# EAGLE library part MIC2981/2982 (library df4iah_dataconvertion)
MICROCHIP MIC2981/2982 Open collector driver for 8 channels
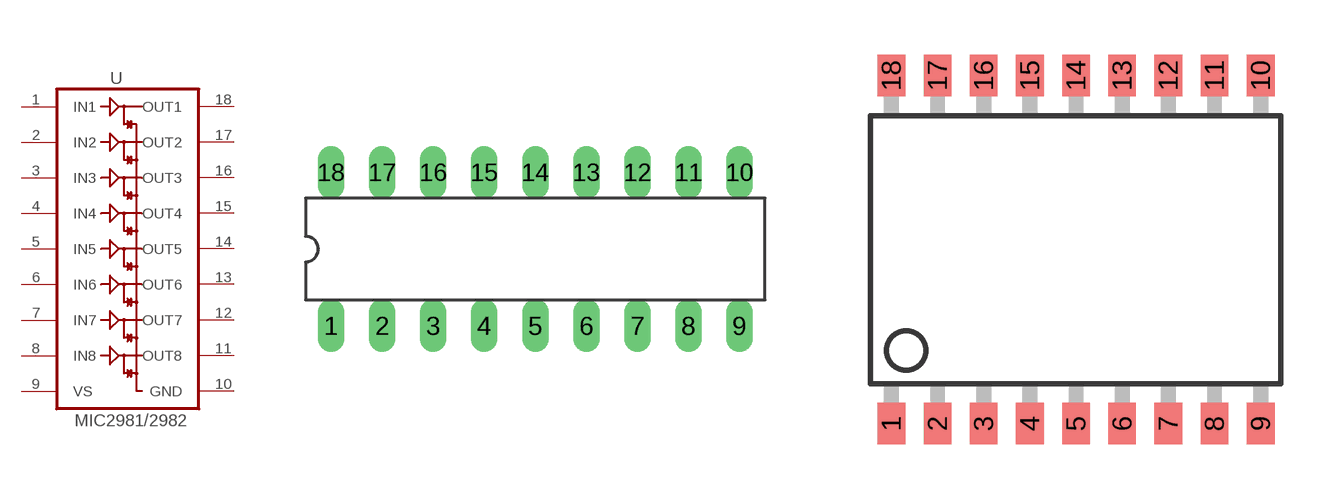
[diagram p3: symbol with the pads of DIL18; footprints DIL18, SO-18W]

Designator prefix U

## MIC2981/2982DIL18 (MF: MICROCHIP; MP: MIC2981/82YWM-TR; OC_FARNELL: 2510053; OC_NEWARK: unknown)  [DIL18]
1  IN1  in
2  IN2  in
3  IN3  in
4  IN4  in
5  IN5  in
6  IN6  in
7  IN7  in
8  IN8  in
9  VS  pwr
10  GND  pwr
11  OUT8  oc
12  OUT7  oc
13  OUT6  oc
14  OUT5  oc
15  OUT4  oc
16  OUT3  oc
17  OUT2  oc
18  OUT1  oc

## MIC2981/2982SO18W (MF: MICROCHIP; MP: MIC2981/82YWM-TR; OC_FARNELL: 2510054; OC_NEWARK: unknown)  [SO-18W]
Pads as for DIL18

## Footprint DIL18 (pad centres in mm)
Dual In Line package type P
drill 0.813 long: 1 -10.16,-3.81; 2 -7.62,-3.81; 3 -5.08,-3.81; 4 -2.54,-3.81; 5 0,-3.81; 6 2.54,-3.81; 7 5.08,-3.81; 8 7.62,-3.81; 9 10.16,-3.81; 10 10.16,3.81; 11 7.62,3.81; 12 5.08,3.81; 13 2.54,3.81; 14 0,3.81; 15 -2.54,3.81; 16 -5.08,3.81; 17 -7.62,3.81; 18 -10.16,3.81

## Footprint SO-18W (pad centres in mm)
Small Outline Wide Plastic Gull Wing 300-mil body, package type SO
smd 0.762 x 1.143: 1 -5.08,-4.788; 2 -3.81,-4.788; 3 -2.54,-4.788; 4 -1.27,-4.788; 5 0,-4.788; 6 1.27,-4.788; 7 2.54,-4.788; 8 3.81,-4.788; 9 5.08,-4.788; 10 5.08,4.788; 11 3.81,4.788; 12 2.54,4.788; 13 1.27,4.788; 14 0,4.788; 15 -1.27,4.788; 16 -2.54,4.788; 17 -3.81,4.788; 18 -5.08,4.788